# EAGLE library part DIP_SW_3P (library F030NG)
DIP Switch 3 pole by CTS
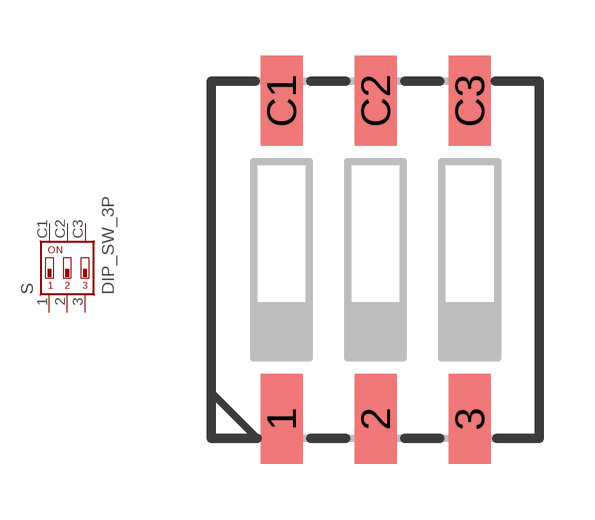
[diagram p72: symbol with the pads of CTS-214-03/SPST; footprint CTS-214-03/SPST]

Designator prefix S

## DIP_SW_3P  [CTS-214-03/SPST]
1  1  pas
2  2  pas
3  3  pas
C1  C1  pas
C2  C2  pas
C3  C3  pas

## Footprint CTS-214-03/SPST (pad centres in mm)
Surface Mount DIP Switch Series 219 SMT "J" Bend CTS Electronic Components Sourc: www.ctscorp.com
smd 1.13 x 2.44: 1 -2.54,-4.3; 2 0,-4.3; 3 2.54,-4.3; C1 -2.54,4.3; C2 0,4.3; C3 2.54,4.3